# Altium footprint library 4P_HEADER-SPE-1241050-2.PcbLib: 1 footprints
Each footprint in its own frame and in the unit in brackets; x right, y up, seen from the top. Pads: shape width x height; smd on the part's side, far side on the other; paste and mask are expansions set on the pad; w line width, h text height; cw(c..) or ccw(c..) is an arc to the next point about the centre after c.
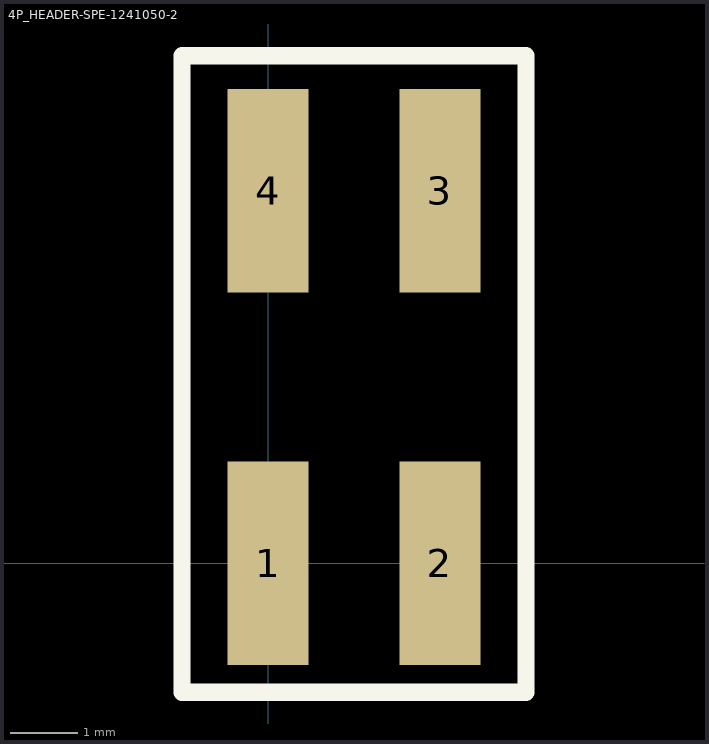
[diagram p0: the footprint, top view; thin cyan lines are the x and y axes]

## 4P_HEADER-SPE-1241050-2 [mm] "4 pin SMT header, 2.54mm pitch"
pads (4):
  rect 1.2x3 smd: 1(0,0) 2(2.54,0) 3(2.54,5.5) 4(0,5.5)
Top Overlay:
  lines w0.254: -1.27,-1.905 -1.27,7.493 3.81,7.493 3.81,-1.905 -1.27,-1.905
3D body: height 10.2, standoff -0.02, extent -1.27,-1.016 3.81,6.604